# EAGLE library part KEYSWITCH-MIRAGE-KITCHEN-SINK (library KVM-Keyboard)
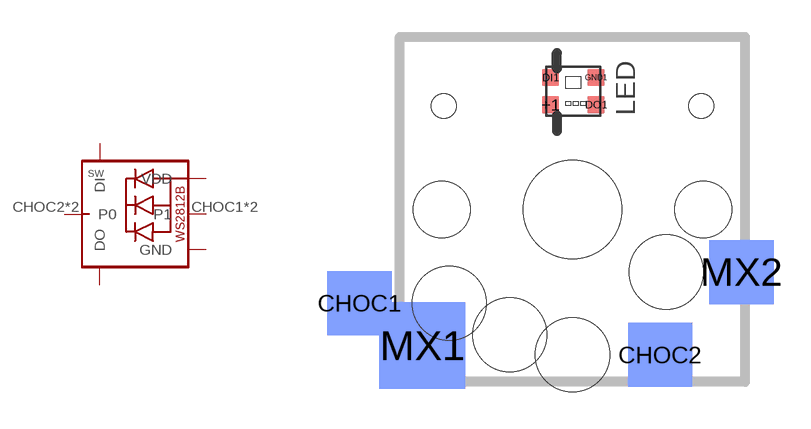
[diagram p1: symbol with the pads of CHOC-AND-MX-SOCKET-LED-MIRAGE-KITCHEN-SINK; footprint CHOC-AND-MX-SOCKET-LED-MIRAGE-KITCHEN-SINK]

Designator prefix SW

## KEYSWITCH-MIRAGE-KITCHEN-SINK  [CHOC-AND-MX-SOCKET-LED-MIRAGE-KITCHEN-SINK]
+1  VDD  in
CHOC1  P1
CHOC2  P0
DI1  DI  in
DO1  DO  out
GND1  GND  in
MX1  P1
MX2  P0

## Footprint CHOC-AND-MX-SOCKET-LED-MIRAGE-KITCHEN-SINK (pad centres in mm)
smd 0.7 x 0.7: +1 -0.887,4.25; DI1 -0.887,5.35; DO1 0.963,4.25; GND1 0.963,5.35
smd 2.6 x 2.6 bottom: CHOC1 -8.64,-3.8; CHOC2 3.56,-5.9; MX2 6.86,-2.54
smd 3.5 x 3.5 bottom: MX1 -6.09,-5.515
hole 4 at 0,0
hole 3 at 3.81,-2.54
hole 3 at -2.54,-5.08
hole 1 at 5.22,4.2
hole 2.3 at -5.3,0
hole 2.3 at 5.3,0
hole 3 at -5,-3.8
hole 3 at 0,-5.9
hole 1 at -5.22,4.2